# EAGLE library part STM_BT_ICSP (library FaBo-PIN)
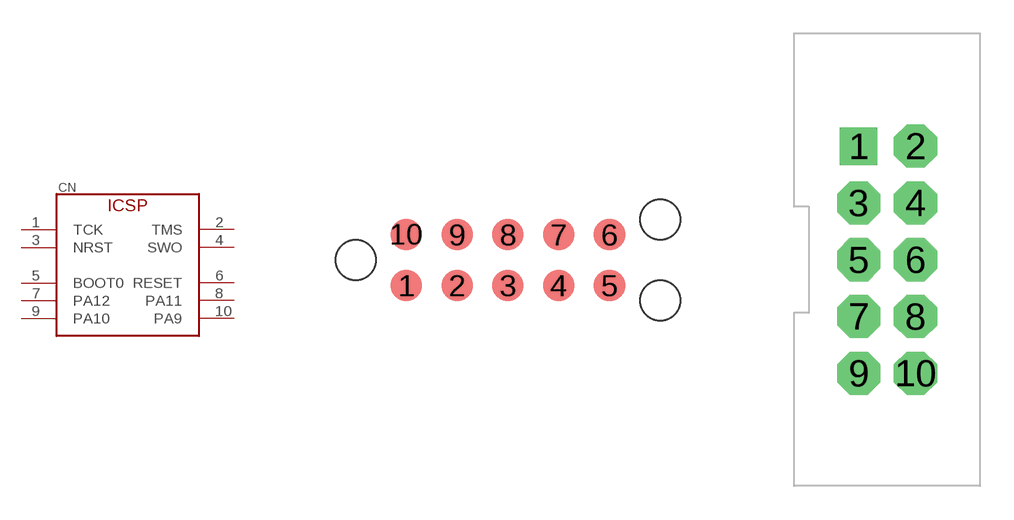
[diagram p18: symbol with the pads of TC2050; footprints TC2050, PIN_2X5_BOX]

Designator prefix CN

## STM_BT_ICSP-TC2015-NL  [TC2050]
1  TCK
2  TMS
3  NRST
4  SWO
5  BOOT0
6  RESET
7  PA12
8  PA11
9  PA10
10  PA9

## STM_BT_ICSP-BOX  [PIN_2X5_BOX]
Pads as for TC2050

## Footprint TC2050 (pad centres in mm)
smd 0.787 x 0.787: 1 1.27,-0.635; 2 2.54,-0.635; 3 3.81,-0.635; 4 5.08,-0.635; 5 6.35,-0.635; 6 6.35,0.635; 7 5.08,0.635; 8 3.81,0.635; 9 2.54,0.635; 10 1.27,0.635
hole 1 at 0,0
hole 1 at 7.62,-1.016
hole 1 at 7.62,1.016

## Footprint PIN_2X5_BOX (pad centres in mm)
drill 1.1 pad 1.676 square: 1 -1.27,5.08
drill 1.1 pad 1.93 octagon: 2 1.27,5.08; 3 -1.27,2.54; 4 1.27,2.54; 5 -1.27,0; 6 1.27,0; 7 -1.27,-2.54; 8 1.27,-2.54; 9 -1.27,-5.08; 10 1.27,-5.08